# EAGLE library part MC33063ADR (library tank)
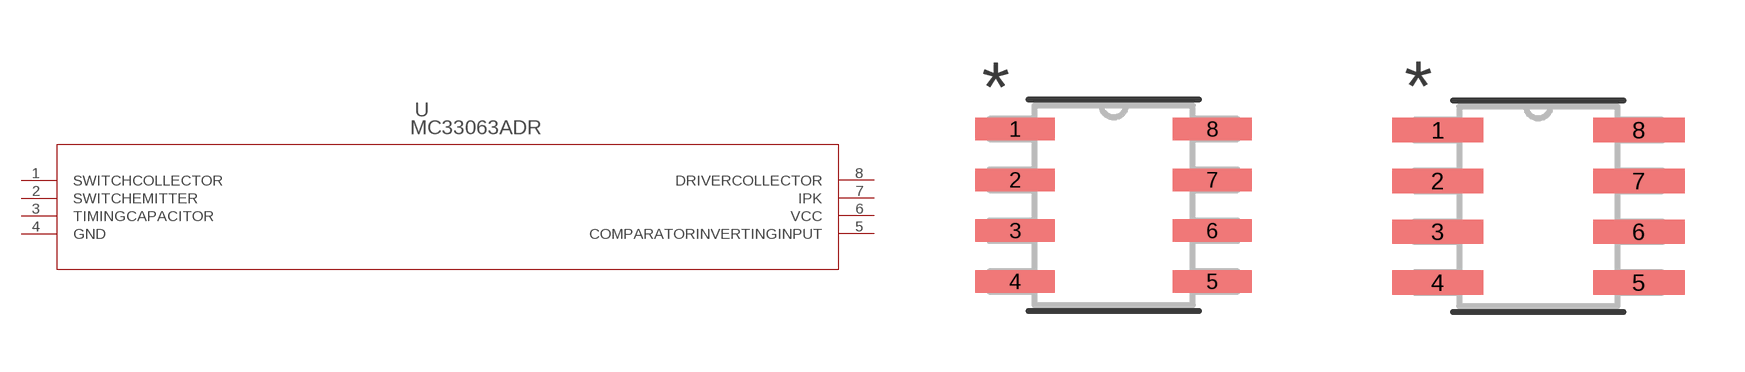
[diagram p0: symbol with the pads of D8; footprints D8, D8-M]

Designator prefix U

## MC33063ADR (MANUFACTURER_PART_NUMBER: MC33063ADR; VENDOR: Texas Instruments)  [D8]
1  SWITCHCOLLECTOR  pas
2  SWITCHEMITTER  pas
3  TIMINGCAPACITOR  pas
4  GND  pas
5  COMPARATORINVERTINGINPUT  pas
6  VCC  pas
7  IPK  pas
8  DRIVERCOLLECTOR  pas

## MC33063ADRD8-M (MANUFACTURER_PART_NUMBER: MC33063ADR; VENDOR: Texas Instruments)  [D8-M]
Pads as for D8

## MC33063ADRD8-L (MANUFACTURER_PART_NUMBER: MC33063ADR; VENDOR: Texas Instruments)  [D8-L]
Pads as for D8

## Footprint D8 (pad centres in mm)
smd 1.981 x 0.559: 1 -2.464,1.905; 2 -2.464,0.635; 3 -2.464,-0.635; 4 -2.464,-1.905; 5 2.464,-1.905; 6 2.464,-0.635; 7 2.464,0.635; 8 2.464,1.905

## Footprint D8-M (pad centres in mm)
smd 2.286 x 0.61: 1 -2.515,1.905; 2 -2.515,0.635; 3 -2.515,-0.635; 4 -2.515,-1.905; 5 2.515,-1.905; 6 2.515,-0.635; 7 2.515,0.635; 8 2.515,1.905

## Footprint D8-L (pad centres in mm)
smd 1.676 x 0.508: 1 -2.413,1.905; 2 -2.413,0.635; 3 -2.413,-0.635; 4 -2.413,-1.905; 5 2.413,-1.905; 6 2.413,-0.635; 7 2.413,0.635; 8 2.413,1.905